# EAGLE library part DIGI_XTP9B (library ORBiT-modules)
Digi XTend® OEM RF Modules The XTend OEM RF module provides unprecedented range in a low-cost wireless data solution. The module is easy to use, requires minimal power, provides reliable delivery of critical data between devices and is now available in the even smaller Digi XBee® Surface Mount form factor to save valuable PCB space. The XTend module utilizes FHSS (Frequency Hopping Spread Spectrum) agility to avoid interference by hopping to a new frequency on every packet transmission or re-transmission. Its transmit power is software adjustable from 100 mW to 1 W—the maximum output power allowable by governments that use 900 MHz as a license-free band. The XTend module is approved for use in the United States, Canada, Australia and other countries (contact Digi for a complete listing). Innovations stamped in its design enable the XTend module to supply two- to eight-times the range of other modules operating within the unlicensed 900 MHz frequency band. The range gained by OEMs and integrators is due to proprietary technologies embedded into each module, including superior RX (receiver) sensitivity, interference immunity, modulation/demodulation techniques and others. Technical data: Digi XTend® 900MHz <https://www.digi.com/products/xbee-rf-solutions/sub-1-ghz-modules/xtend-module>
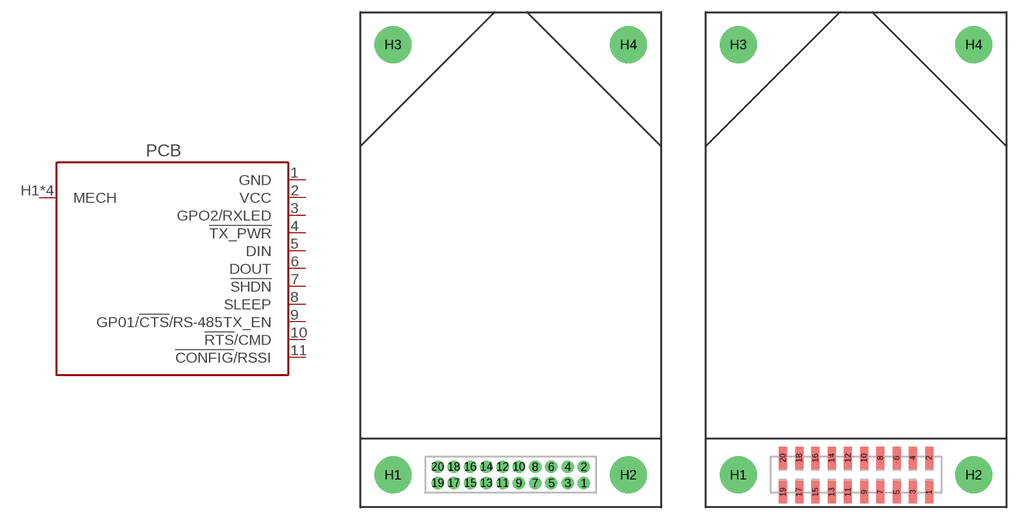
[diagram p1: symbol with the pads of DIGI_XTP9B-TH; footprints DIGI_XTP9B-TH, DIGI_XTP9B-SMD]

Designator prefix PCB

## DIGI_XTP9B-MMCX-TH (MF: Digi Internation; MPN: XTP9B-DPM-001; PN_DIGIKEY: 602-1870-ND; PN_MOUSER: 888-XTP9B-DPM-001), DIGI_XTP9B-RPSMA-TH (MF: Digi Internation; MPN: XTP9B-DPS-001; PN_DIGIKEY: 602-1871-ND; PN_MOUSER: 888-XTP9B-DPS-001)  [DIGI_XTP9B-TH]
1  GND  sup
2  VCC  sup
3  GPO2/RXLED  out
4  !TX_PWR!  out
5  DIN  in
6  DOUT  out
7  !SHDN!  in
8  SLEEP  in
9  GP01/!CTS!/RS-485TX_EN  out
10  !RTS!/CMD  in
11  !CONFIG!/RSSI
H1  MECH
H2  MECH
H3  MECH
H4  MECH

## DIGI_XTP9B-MMCX-SMD (MF: Digi Internation; MPN: XTP9B-DPM-001; PN_DIGIKEY: 602-1870-ND; PN_MOUSER: 888-XTP9B-DPM-001), DIGI_XTP9B-RPSMA-SMD (MF: Digi Internation; MPN: XTP9B-DPS-001; PN_DIGIKEY: 602-1871-ND; PN_MOUSER: 888-XTP9B-DPS-001)  [DIGI_XTP9B-SMD]
Pads as for DIGI_XTP9B-TH

## Footprint DIGI_XTP9B-TH (pad centres in mm)
Digi 9Xtend 1W/900MHz OEM RF Module - through-hole package
drill 1: 1 9,-27.5; 2 9,-25.5; 3 7,-27.5; 4 7,-25.5; 5 5,-27.5; 6 5,-25.5; 7 3,-27.5; 8 3,-25.5; 9 1,-27.5; 10 1,-25.5; 11 -1,-27.5; 12 -1,-25.5; 13 -3,-27.5; 14 -3,-25.5; 15 -5,-27.5; 16 -5,-25.5; 17 -7,-27.5; 18 -7,-25.5; 19 -9,-27.5; 20 -9,-25.5
drill 3.5: H1 -14.5,-26.5; H2 14.5,-26.5; H3 -14.5,26.5; H4 14.5,26.5

## Footprint DIGI_XTP9B-SMD (pad centres in mm)
Digi 9Xtend 1W/900MHz OEM RF Module - surface-mount package
smd 1 x 2.75: 1 9,-28.6; 2 9,-24.4; 3 7,-28.6; 4 7,-24.4; 5 5,-28.6; 6 5,-24.4; 7 3,-28.6; 8 3,-24.4; 9 1,-28.6; 10 1,-24.4; 11 -1,-28.6; 12 -1,-24.4; 13 -3,-28.6; 14 -3,-24.4; 15 -5,-28.6; 16 -5,-24.4; 17 -7,-28.6; 18 -7,-24.4; 19 -9,-28.6; 20 -9,-24.4
drill 3.5: H1 -14.5,-26.5; H2 14.5,-26.5; H3 -14.5,26.5; H4 14.5,26.5